# EAGLE library part TPS40400RHLR (library PTN78000WAH)
IC, DCDC CTRLR, SYNC BUCK, 24QFN
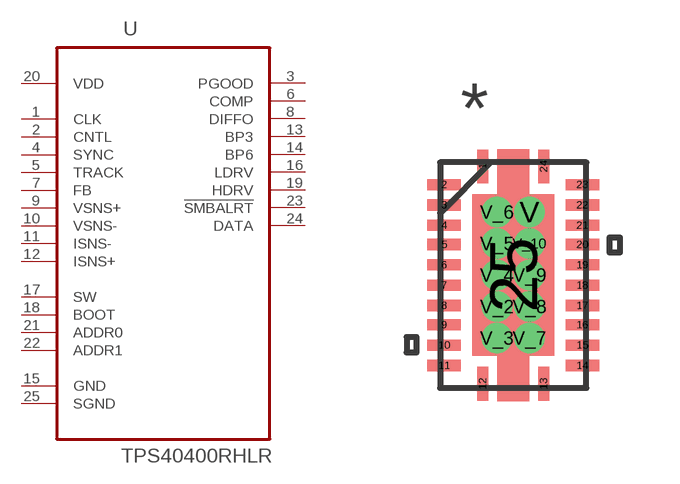
[diagram p14: symbol with the pads of TI_QFN-24_RHL24; footprint TI_QFN-24_RHL24]

Designator prefix U

## TPS40400RHLR (MPN: TPS40400RHLR; OC_FARNELL: 1972805; OC_NEWARK: 59T0119; PACKAGE: QFN-24; SUPPLIER: TEXAS INSTRUMENTS)  [TI_QFN-24_RHL24]
1  CLK  in
2  CNTL  in
3  PGOOD  out
4  SYNC  in
5  TRACK  in
6  COMP  out
7  FB  in
8  DIFFO  out
9  VSNS+  in
10  VSNS-  in
11  ISNS-  in
12  ISNS+  in
13  BP3  out
14  BP6  out
15  GND  pas
16  LDRV  out
17  SW  in
18  BOOT  in
19  HDRV  out
20  VDD  pwr
21  ADDR0  in
22  ADDR1  in
23  !SMBALRT  out
24  DATA
25  SGND  pas

## Footprint TI_QFN-24_RHL24 (pad centres in mm)
smd 0.279 x 0.838: 1 -0.762,2.718; 12 -0.762,-2.718; 13 0.762,-2.718; 24 0.762,2.718
smd 0.838 x 0.279: 2 -1.727,2.261; 3 -1.727,1.753; 4 -1.727,1.245; 5 -1.727,0.762; 6 -1.727,0.254; 7 -1.727,-0.254; 8 -1.727,-0.762; 9 -1.727,-1.245; 10 -1.727,-1.753; 11 -1.727,-2.261; 14 1.727,-2.261; 15 1.727,-1.753; 16 1.727,-1.245; 17 1.727,-0.762; 18 1.727,-0.254; 19 1.727,0.254; 20 1.727,0.762; 21 1.727,1.245; 22 1.727,1.753; 23 1.727,2.261
smd 2.057 x 4.039: 25 0,0
drill 0.254: V 0.406,1.575; V_2 -0.406,-0.787; V_3 -0.406,-1.575; V_4 -0.406,0; V_5 -0.406,0.787; V_6 -0.406,1.575; V_7 0.406,-1.575; V_8 0.406,-0.787; V_9 0.406,0; V_10 0.406,0.787